# EAGLE library part PIC24FJ*GB004 (library MCU)
IC MCU 16BIT 64KB FLASH 44TQFP 28/44-Pin, 16-Bit, Flash Microcontrollers with USB On-The-Go (OTG) and nanoWatt XLP Technology Datasheet <http://ww1.microchip.com/downloads/en/DeviceDoc/39940d.pdf>
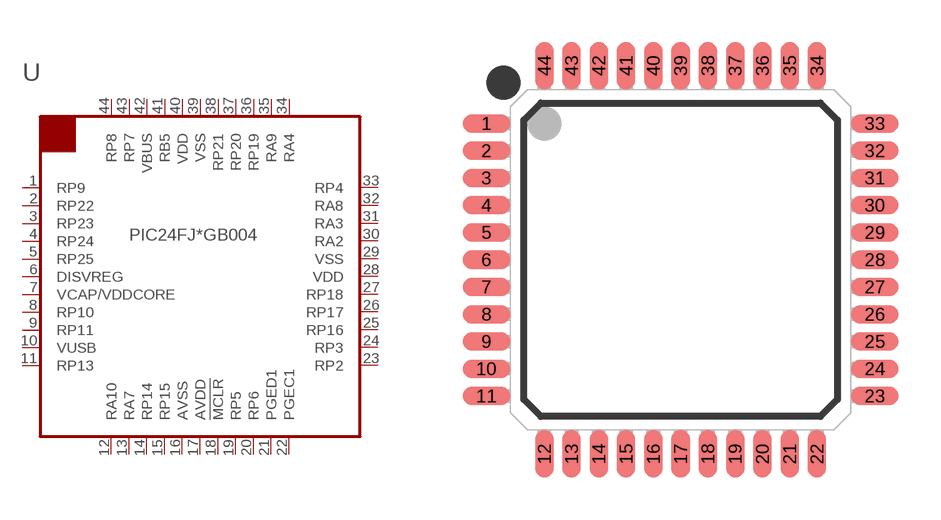
[diagram p11: symbol with the pads of TQFP-44; footprint TQFP-44]

Designator prefix U

## PIC24FJ32GB004-I/PT (MFPN: PIC24FJ32GB004-I/PT), PIC24FJ64GB004-I/PT (MFPN: PIC24FJ64GB004-I/PT)  [TQFP-44]
1  RP9
2  RP22
3  RP23
4  RP24
5  RP25
6  DISVREG  pwr
7  VCAP/VDDCORE  pwr
8  RP10
9  RP11
10  VUSB  pwr
11  RP13
12  RA10
13  RA7
14  RP14
15  RP15
16  AVSS  pwr
17  AVDD  pwr
18  !MCLR
19  RP5
20  RP6
21  PGED1
22  PGEC1
23  RP2
24  RP3
25  RP16
26  RP17
27  RP18
28  VDD  pwr
29  VSS  pwr
30  RA2
31  RA3
32  RA8
33  RP4
34  RA4
35  RA9
36  RP19
37  RP20
38  RP21
39  VSS  pwr
40  VDD
41  RB5
42  VBUS  pwr
43  RP7
44  RP8

## Footprint TQFP-44 (pad centres in mm)
TQFP, 44-Leads, Body 10x10mm, Pitch 0.80mm, IPC Medium Density
smd 1.4 x 0.55: 1 -5.7,4; 2 -5.7,3.2; 3 -5.7,2.4; 4 -5.7,1.6; 5 -5.7,0.8; 6 -5.7,0; 7 -5.7,-0.8; 8 -5.7,-1.6; 9 -5.7,-2.4; 10 -5.7,-3.2; 11 -5.7,-4; 23 5.7,-4; 24 5.7,-3.2; 25 5.7,-2.4; 26 5.7,-1.6; 27 5.7,-0.8; 28 5.7,0; 29 5.7,0.8; 30 5.7,1.6; 31 5.7,2.4; 32 5.7,3.2; 33 5.7,4
smd 0.55 x 1.4: 12 -4,-5.7; 13 -3.2,-5.7; 14 -2.4,-5.7; 15 -1.6,-5.7; 16 -0.8,-5.7; 17 0,-5.7; 18 0.8,-5.7; 19 1.6,-5.7; 20 2.4,-5.7; 21 3.2,-5.7; 22 4,-5.7; 34 4,5.7; 35 3.2,5.7; 36 2.4,5.7; 37 1.6,5.7; 38 0.8,5.7; 39 0,5.7; 40 -0.8,5.7; 41 -1.6,5.7; 42 -2.4,5.7; 43 -3.2,5.7; 44 -4,5.7